# Altium schematic symbol library keyboard-01.SchLib: 17 symbols
Pins are listed as number, name and electrical type; pins without a type are passive.

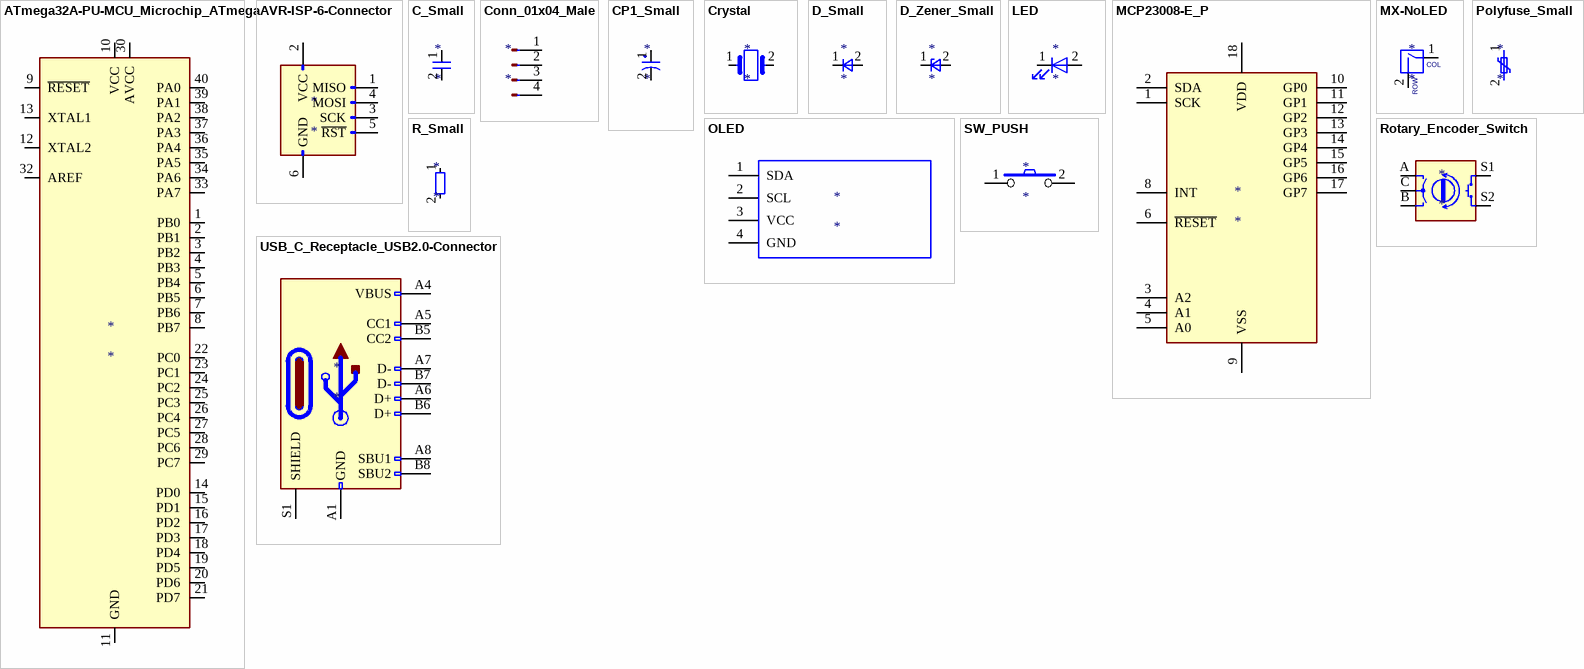
[diagram p0: symbols ATmega32A-PU-MCU_Microchip_ATmega to USB_C_Receptacle_USB2.0-Connector]

## ATmega32A-PU-MCU_Microchip_ATmega
designator *
pins: 1 PB0, 2 PB1, 3 PB2, 4 PB3, 5 PB4, 6 PB5, 7 PB6, 8 PB7, 9 ~{RESET}, 10 VCC, 11 GND, 12 XTAL2, 13 XTAL1, 14 PD0, 15 PD1, 16 PD2, 17 PD3, 18 PD4, 19 PD5, 20 PD6, 21 PD7, 22 PC0, 23 PC1, 24 PC2, 25 PC3, 26 PC4, 27 PC5, 28 PC6, 29 PC7, 30 AVCC, 31 GND hidden, 32 AREF, 33 PA7, 34 PA6, 35 PA5, 36 PA4, 37 PA3, 38 PA2, 39 PA1, 40 PA0

## AVR-ISP-6-Connector
designator *
pins: 1 MISO, 2 VCC, 3 SCK, 4 MOSI, 5 ~{RST}, 6 GND

## C_Small
designator *
pins: 1, 2

## Conn_01x04_Male
designator *
pins: 1 Pin_1, 2 Pin_2, 3 Pin_3, 4 Pin_4

## CP1_Small
designator *
pins: 1, 2

## Crystal
designator *
pins: 1, 2

## D_Small
designator *
pins: 1 K, 2 A

## D_Zener_Small
designator *
pins: 1 K, 2 A

## LED
designator *
pins: 1 K, 2 A

## MCP23008-E_P
designator *
pins: 1 SCK, 2 SDA, 3 A2, 4 A1, 5 A0, 6 ~{RESET}, 7 NC hidden, 8 INT, 9 VSS, 10 GP0, 11 GP1, 12 GP2, 13 GP3, 14 GP4, 15 GP5, 16 GP6, 17 GP7, 18 VDD

## MX-NoLED
designator *
pins: 1 COL, 2 ROW

## OLED
designator *
pins: 1 SDA, 2 SCL, 3 VCC, 4 GND

## Polyfuse_Small
designator *
pins: 1, 2

## R_Small
designator *
pins: 1, 2

## Rotary_Encoder_Switch
designator *
pins: A, B, C, S1, S2

## SW_PUSH
designator *
pins: 1, 2

## USB_C_Receptacle_USB2.0-Connector
designator *
pins: A1 GND, A4 VBUS, A5 CC1, A6 D+, A7 D-, A8 SBU1, A9 VBUS hidden, A12 GND hidden, B1 GND hidden, B4 VBUS hidden, B5 CC2, B6 D+, B7 D-, B8 SBU2, B9 VBUS hidden, B12 GND hidden, S1 SHIELD